# Altium footprint library _Geeky_ PCB copy_2023-02-18.PcbLib: 22 footprints (part 2 of 2)
Each footprint in its own frame and in the unit in brackets; x right, y up, seen from the top. Pads: shape width x height; smd on the part's side, far side on the other; paste and mask are expansions set on the pad; w line width, h text height; cw(c..) or ccw(c..) is an arc to the next point about the centre after c.
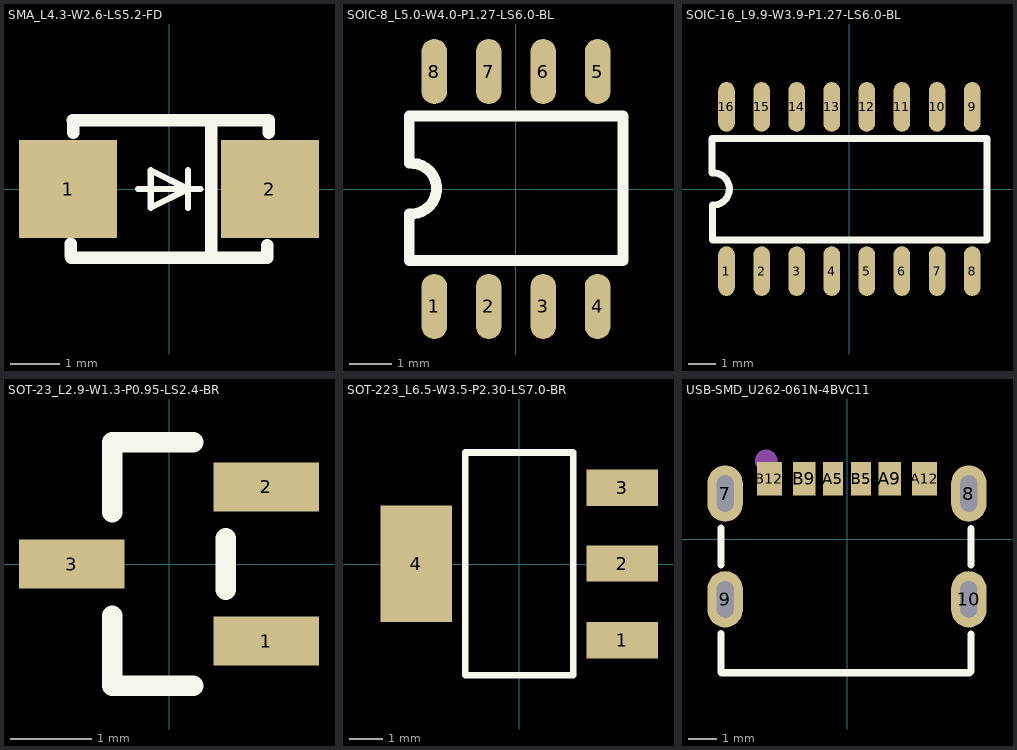
[diagram p1: the footprints below, top view; thin cyan lines are the x and y axes]

## SMA_L4.3-W2.6-LS5.2-FD [mm]
pads (2):
  rect 2x2 smd: 1(-2.057,0) 2(2.057,0)
Top Overlay:
  lines w0.127: -0.627,0 0.643,0 ; 0.389,-0.381 0.389,0 ; 0.389,0.381 0.389,0 ; 0.389,0 -0.373,-0.381 -0.373,0 -0.373,0.381 0.389,0
  lines w0.254: -2.007,-1.367 -2.007,-1.118 ; -1.991,-1.397 2.007,-1.397 2.007,-1.147 ; -1.966,1.397 2.032,1.397 2.032,1.147 ; -1.956,1.147 -1.956,1.397 ; 0.864,-1.245 0.864,1.245

## SOIC-8_L5.0-W4.0-P1.27-LS6.0-BL [mm]
pads (8):
  oval 0.6x1.52 smd: 1(-1.905,-2.74) 2(-0.635,-2.74) 3(0.635,-2.74) 4(1.905,-2.74) 5(1.905,2.74) 6(0.635,2.74) 7(-0.635,2.74) 8(-1.905,2.74)
Top Overlay:
  lines w0.254: -2.49,-1.671 -2.49,-0.58 ccw(c-2.445,0.01) -2.49,0.6 -2.49,1.7 2.5,1.7 2.5,-1.671 -2.49,-1.671

## SOIC-16_L9.9-W3.9-P1.27-LS6.0-BL [mm]
pads (16):
  oval 0.6x1.8 smd: 1(-4.445,-2.972) 2(-3.175,-2.972) 3(-1.905,-2.972) 4(-0.635,-2.972) 5(0.635,-2.972) 6(1.905,-2.972) 7(3.175,-2.972) 8(4.445,-2.972) 9(4.445,2.972) 10(3.175,2.972) 11(1.905,2.972) 12(0.635,2.972) 13(-0.635,2.972) 14(-1.905,2.972) 15(-3.175,2.972) 16(-4.445,2.972)
Top Overlay:
  lines w0.254: -4.976,0.584 -4.976,1.829 4.976,1.829 4.976,-1.854 -4.928,-1.854 ; -4.953,-1.854 -4.953,-0.584 ccw(c-4.928,0) -4.95,0.584

## SOT-23_L2.9-W1.3-P0.95-LS2.4-BR [mm]
pads (3):
  rect 1.3x0.6 smd: 1(1.2,-0.95) 2(1.2,0.95) 3(-1.2,0)
Top Overlay:
  lines w0.254: -0.7,-0.636 -0.7,-1.5 0.3,-1.5 ; -0.7,0.636 -0.7,1.5 0.3,1.5 ; 0.7,-0.314 0.7,0.314

## SOT-223_L6.5-W3.5-P2.30-LS7.0-BR [mil]
pads (4):
  rect 85x43 smd: 1(122,-90.5) 2(122,0.5) 3(122,90.5)
  rect 85x138 smd: 4(-122,0.5)
Top Overlay:
  lines w7.9: -63.8,-131.7 64.1,-131.7 64.1,132.1 -63.8,132.1 -63.8,-131.7

## USB-SMD_U262-061N-4BVC11 [mm]
pads (10):
  oval 1.25x2 hole 0.6 slot 1.3 at 90 deg: 7(-4.32,1.611) 8(4.32,1.611) 9(-4.32,-2.139) 10(4.32,-2.139)
  rect 0.7x1.2 smd: A5(-0.5,2.139) B5(0.5,2.139)
  rect 0.8x1.2 smd: A9(1.52,2.139) B9(-1.52,2.139)
  rect 0.9x1.2 smd: A12(2.75,2.139) B12(-2.75,2.139)
Top Overlay:
  lines w0.254: -4.467,-3.357 -4.467,-4.733 -4.455,-4.746 4.346,-4.746 4.397,-4.695 4.397,-3.367 ; -4.467,-0.921 -4.467,0.393 ; 4.397,-0.911 4.397,0.372
Top Paste:
  drawing of 10 lines, arcs and shapes, not listed
Mechanical 15:
  circle w0.4: c-2.869,2.773 r0.2